# EAGLE library part 87759-38 (library con-molex-milli-grid)
HEADER
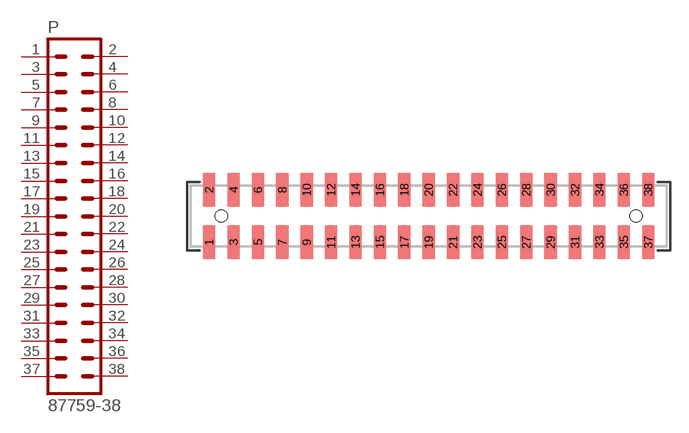
[diagram p130: symbol with the pads of 87759-38; footprint 87759-38]

Designator prefix P

## 87759-38  [87759-38]
1  1  pas
2  2  pas
3  3  pas
4  4  pas
5  5  pas
6  6  pas
7  7  pas
8  8  pas
9  9  pas
10  10  pas
11  11  pas
12  12  pas
13  13  pas
14  14  pas
15  15  pas
16  16  pas
17  17  pas
18  18  pas
19  19  pas
20  20  pas
21  21  pas
22  22  pas
23  23  pas
24  24  pas
25  25  pas
26  26  pas
27  27  pas
28  28  pas
29  29  pas
30  30  pas
31  31  pas
32  32  pas
33  33  pas
34  34  pas
35  35  pas
36  36  pas
37  37  pas
38  38  pas

## Footprint 87759-38 (pad centres in mm)
HEADER SMD Dual Row, Vertical
smd 1 x 2.75: 1 -18,-2.15; 2 -18,2.15; 3 -16,-2.15; 4 -16,2.15; 5 -14,-2.15; 6 -14,2.15; 7 -12,-2.15; 8 -12,2.15; 9 -10,-2.15; 10 -10,2.15; 11 -8,-2.15; 12 -8,2.15; 13 -6,-2.15; 14 -6,2.15; 15 -4,-2.15; 16 -4,2.15; 17 -2,-2.15; 18 -2,2.15; 19 0,-2.15; 20 0,2.15; 21 2,-2.15; 22 2,2.15; 23 4,-2.15; 24 4,2.15; 25 6,-2.15; 26 6,2.15; 27 8,-2.15; 28 8,2.15; 29 10,-2.15; 30 10,2.15; 31 12,-2.15; 32 12,2.15; 33 14,-2.15; 34 14,2.15; 35 16,-2.15; 36 16,2.15; 37 18,-2.15; 38 18,2.15
hole 1 at -17,0
hole 1 at 17,0